# Altium schematic symbol library Unified Transistors.SchLib: 4 symbols
Pins are listed as number, name and electrical type; pins without a type are passive.

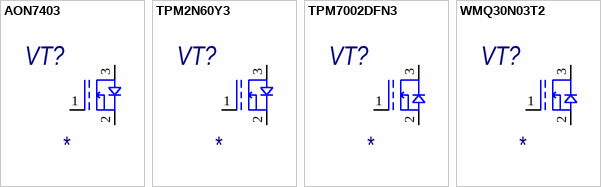
[diagram p0: symbols AON7403 to WMQ30N03T2]

## AON7403
designator VT?
!!! Обязательно Впишите описание символа
footprint DFN_3X3_EP
pins: 1, 2 10, 3 D

## TPM2N60Y3
designator VT?
X1 DFN1006 P-channel MOS
footprint X-DFN1006-3
pins: 1, 2 10, 3 D

## TPM7002DFN3
designator VT?
X1 DFN1006 N-channel MOS
footprint X-DFN1006-3
pins: 1, 2 10, 3 D

## WMQ30N03T2
designator VT?
!!! Обязательно Впишите описание символа
footprint DFN_3X3_EP
pins: 1, 2 10, 3 D